# Altium footprint library PcbLib1.PcbLib: 3 footprints
Each footprint in its own frame and in the unit in brackets; x right, y up, seen from the top. Pads: shape width x height; smd on the part's side, far side on the other; paste and mask are expansions set on the pad; w line width, h text height; cw(c..) or ccw(c..) is an arc to the next point about the centre after c.
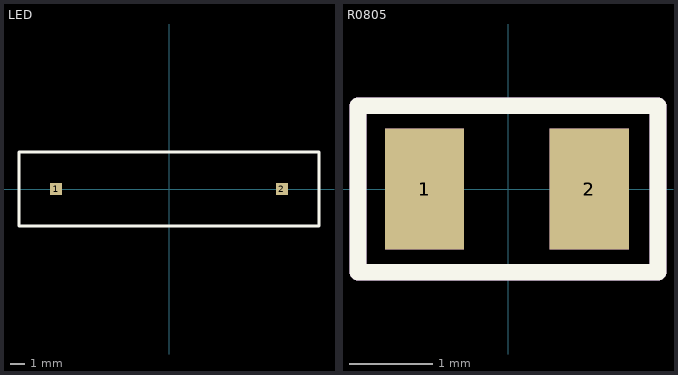
[diagram p0: the footprints below, top view; thin cyan lines are the x and y axes]

## LED [mm]
pads (2):
  rect 0.8x0.8 smd: 1(-7.6,0) 2(7.6,0)
Top Overlay:
  lines w0.2: -10.1,-2.5 10.1,-2.5 10.1,2.5 -10.1,2.5 -10.1,0 -10.1,-2.5

## PCBComponent_1 [mm]

## R0805 [mm]
pads (4):
  rect 0.95x1.45 smd: 1(-1,0) 2(0.975,0)
  rect 0.95x1.45 on Mech29: 1(-1,0) 2(0.975,0)
Top Overlay:
  lines w0.2: -1.8,-1 1.8,-1 1.8,1 -1.8,1 -1.8,-1
Mechanical 29:
  lines w0.2: -1.8,-1 1.8,-1 1.8,1 -1.8,1 -1.8,-1
  text ",desinator'." at -2.946,-0.538 h1.52
3D body "User Library-CR2012-0805.step": height 0.61, standoff 0.01, extent -1,-0.625 1,0.625
3D body "User Library-CR2012-0805.step": height 0.61, standoff 0.01, extent -1,-0.625 1,0.625